# Altium schematic symbol library POWER_REVX.SchLib: 1 symbol
Pins are listed as number, name and electrical type; pins without a type are passive.

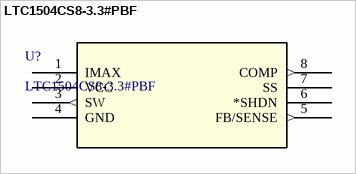
[diagram p0: symbol LTC1504CS8-3.3#PBF]

## LTC1504CS8-3.3#PBF
designator U?
No Description Available; Mfr_Name: Analog Devices Inc; Copyright: Copyright (C) 2022 Ultra Librarian. All rights reserved.; Manufacturer_Part_Number: LTC1504CS8-3.3#PBF; RefDes: RefDes; Type: DEV
footprint SO-8_S_LIT
pins: 1 IMAX, 2 VCC (power), 3 SW (out), 4 GND (power), 5 FB/SENSE (out), 6 *SHDN, 7 SS, 8 COMP (out)